# Altium footprint library 28377一体板.PcbLib: 62 footprints (part 2 of 4)
Each footprint in its own frame and in the unit in brackets; x right, y up, seen from the top. Pads: shape width x height; smd on the part's side, far side on the other; paste and mask are expansions set on the pad; w line width, h text height; cw(c..) or ccw(c..) is an arc to the next point about the centre after c.
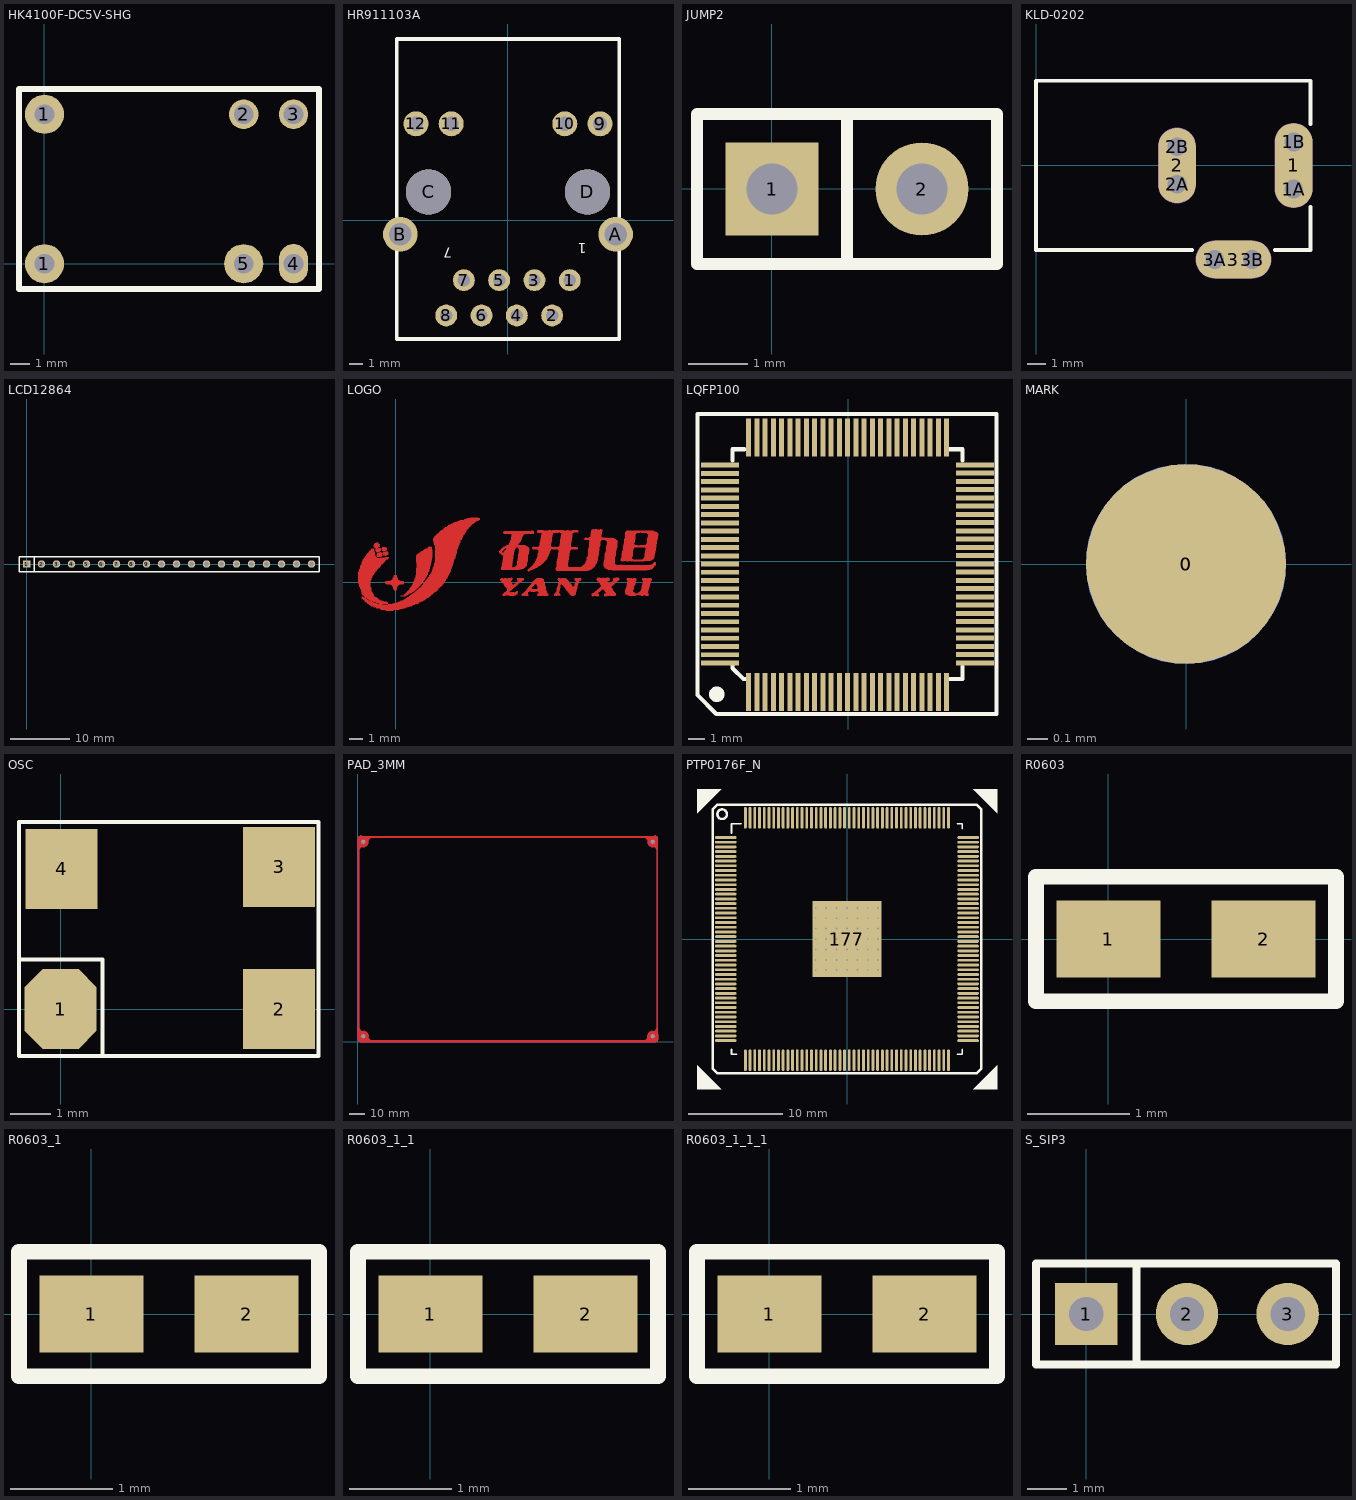
[diagram p1: the footprints below, top view; thin cyan lines are the x and y axes]

## HK4100F-DC5V-SHG [mm]
pads (6):
  round 2 hole 1: 1(0,0) 1(0,7.62) 5(10.16,0)
  round 1.5 hole 1: 2(10.16,7.62) 3(12.7,7.62)
  oval 1.5x2 hole 1: 4(12.7,0)
Top Overlay:
  lines w0.305: -1.3,-1.3 -1.3,8.92 14,8.92 14,-1.28 13.98,-1.3 -1.3,-1.3

## HR911103A [mm]
pads (16):
  round 1.575 hole 0.889: 1(4.462,-4.31) 2(3.192,-6.85) 3(1.922,-4.31) 4(0.652,-6.85) 5(-0.618,-4.31) 6(-1.888,-6.85) 7(-3.158,-4.31) 8(-4.428,-6.85)
  round 1.8 hole 1.02: 9(6.642,6.94) 10(4.102,6.94) 11(-4.068,6.94) 12(-6.608,6.94)
  round 2.5 hole 1.63: A(7.762,-1.01) B(-7.728,-1.01)
  round 3.25 hole 3.25: C(-5.698,2.04) D(5.732,2.04)
Top Overlay:
  lines w0.254: -7.983,-8.543 -7.983,13.04 8.016,13.04 8.016,-8.543 -7.983,-8.543
  text "1" at 5.677,-1.411 h1.27
  text "7" at -3.983,-1.743 h1.27

## JUMP2 [mil]
pads (2):
  rect 62x62 hole 34: 1(0.2,-0.31)
  round 62 hole 34: 2(100.2,-0.31)
Top Overlay:
  lines w8: 50.2,-50.31 50.2,49.69 ; -49.8,-50.31 150.2,-50.31 150.2,49.69 -49.8,49.69 -49.8,-50.31

## KLD-0202 [mm] "DC Power Jack, 2.5mm, KLD Series, PCB Mount"
pads (9):
  oval 2x4.5 all layers, no hole: 1(13.7,0)
  round 1.5 hole 1: 1A(13.7,-1.25) 1B(13.7,1.25) 2A(7.5,-1) 2B(7.5,1) 3A(9.5,-5) 3B(11.5,-5)
  oval 2x4 all layers, no hole: 2(7.5,0)
  oval 4x2 all layers, no hole: 3(10.5,-5)
Top Overlay:
  lines w0.2: 8.3,-4.5 0,-4.5 0,4.5 14.6,4.5 14.6,2.2 ; 12.7,-4.5 14.6,-4.5 14.6,-2.2
Mechanical 1:
  lines w1: 7.5,-1 7.5,1 ; 9.5,-5 11.5,-5 ; 13.7,-1.25 13.7,1.25
Mechanical 2:
  lines w2.016: 7.5,-1 7.5,1 ; 9.5,-5 11.5,-5 ; 13.7,-1.25 13.7,1.25

## LCD12864 [mil]
pads (20):
  rect 50x50 hole 32: 1(0,0)
  round 50 hole 32: 2(100,0) 3(200,0) 4(300,0) 5(400,0) 6(500,0) 7(600,0) 8(700,0) 9(800,0) 10(900,0) 11(1000,0) 12(1100,0) 13(1200,0) 14(1300,0) 15(1400,0) 16(1500,0) 17(1600,0) 18(1700,0) 19(1800,0) 20(1900,0)
Top Overlay:
  lines w10: 50,-50 50,50 ; -50,-50 -50,50 1950,50 1950,-50 -50,-50

## LOGO [mm]
Top Layer:
  drawing of 1962 lines, arcs and shapes, not listed

## LQFP100 [mm]
pads (100):
  rect 0.3x2.3 smd: 1(-6.041,-7.929) 2(-5.541,-7.929) 3(-5.041,-7.929) 4(-4.541,-7.929) 5(-4.041,-7.929) 6(-3.541,-7.929) 7(-3.041,-7.929) 8(-2.541,-7.929) 9(-2.041,-7.929) 10(-1.541,-7.929) 11(-1.041,-7.929) 12(-0.541,-7.929) 13(-0.041,-7.929) 14(0.459,-7.929) 15(0.959,-7.929) 16(1.459,-7.929) 17(1.959,-7.929) 18(2.459,-7.929) 19(2.959,-7.929) 20(3.459,-7.929) 21(3.959,-7.929) 22(4.459,-7.929) 23(4.959,-7.929) 24(5.459,-7.929) 25(5.959,-7.929) 51(5.959,7.504) 52(5.459,7.504) 53(4.959,7.504) 54(4.459,7.504) 55(3.959,7.504) 56(3.459,7.504) 57(2.959,7.504) 58(2.459,7.504) 59(1.959,7.504) 60(1.459,7.504) 61(0.959,7.504) 62(0.459,7.504) 63(-0.041,7.504) 64(-0.541,7.504) 65(-1.041,7.504) 66(-1.541,7.504) 67(-2.041,7.504) 68(-2.541,7.504) 69(-3.041,7.504) 70(-3.541,7.504) 71(-4.041,7.504) 72(-4.541,7.504) 73(-5.041,7.504) 74(-5.541,7.504) 75(-6.041,7.504)
  rect 2.3x0.3 smd: 26(7.674,-6.167) 27(7.674,-5.667) 28(7.674,-5.167) 29(7.674,-4.667) 30(7.674,-4.167) 31(7.674,-3.667) 32(7.674,-3.167) 33(7.674,-2.667) 34(7.674,-2.167) 35(7.674,-1.667) 36(7.674,-1.167) 37(7.674,-0.667) 38(7.674,-0.167) 39(7.674,0.333) 40(7.674,0.833) 41(7.674,1.333) 42(7.674,1.833) 43(7.674,2.333) 44(7.674,2.833) 45(7.674,3.333) 46(7.674,3.833) 47(7.674,4.333) 48(7.674,4.833) 49(7.674,5.333) 50(7.674,5.833) 76(-7.769,5.82) 77(-7.768,5.321) 78(-7.768,4.821) 79(-7.768,4.321) 80(-7.768,3.821) 81(-7.768,3.321) 82(-7.768,2.821) 83(-7.768,2.321) 84(-7.768,1.821) 85(-7.768,1.321) 86(-7.768,0.821) 87(-7.768,0.321) 88(-7.768,-0.179) 89(-7.768,-0.679) 90(-7.768,-1.179) 91(-7.768,-1.679) 92(-7.768,-2.179) 93(-7.768,-2.679) 94(-7.768,-3.179) 95(-7.768,-3.679) 96(-7.768,-4.179) 97(-7.768,-4.679) 98(-7.768,-5.179) 99(-7.768,-5.679) 100(-7.768,-6.179)
Top Overlay:
  circle w0.8: c-7.968,-8.077 r0.068
  lines w0.254: -7.01,-6.3 -7.01,-6.496 ; -7.01,6.1 -7.01,6.775 -6.305,6.775 ; -6.2,-7.152 -6.354,-7.152 ; 6.1,-7.152 6.92,-7.152 6.92,-6.403 6.922,-6.4 ; 6.1,6.78 6.922,6.78 6.922,6.1 ; -7.01,-6.496 -6.354,-7.152 ; -7.01,-6.496 -6.354,-7.152 ; -9.144,-8.128 -9.144,8.636 -9.144,8.788 -9.144,8.915 8.992,8.915 8.992,-9.271 -8.001,-9.271 -9.144,-8.128

## MARK [mm]
pads (2):
  round 1 smd: 0(0,0)
  round 1 smd far side: 0(0,0)
Top Solder:
  circle w0.5: c0,0 r0.75
Bottom Solder:
  circle w0.5: c0,0 r0.75

## OSC [mm]
pads (4):
  oct 1.8x2 smd: 1(0,0)
  rect 1.8x2 smd: 2(5.461,0) 3(5.461,3.556) 4(0.025,3.505)
Top Overlay:
  lines w0.1: -0.553,-1.168 -1.041,-1.168 -1.041,4.674 6.452,4.674
  lines w0.102: -1.041,1.245 -0.903,1.245 1.041,1.245 ; -0.686,-1.168 6.452,-1.168 6.452,4.674 ; 0.635,1.245 1.041,1.245 ; 1.041,-1.118 1.041,-0.914 1.041,1.245

## PAD_3MM [mm]
pads (4):
  round 0 hole 3: 1(3.5,3.5) 1(3.5,126.751) 1(186.746,3.5) 1(186.746,126.751)
Top Layer:
  region: 181.356,0.127 181.356,0.889 182.169,0.889 183.744,2.464 183.744,4.75 185.369,6.375 188.112,6.375 189.382,7.645 189.382,8.484 190.119,8.484 190.119,1.397 188.849,0.127
  region: 0.127,8.89 0.889,8.89 0.889,8.077 2.464,6.502 4.75,6.502 6.375,4.877 6.375,2.134 7.645,0.864 8.484,0.864 8.484,0.127 1.372,0.127 0.127,1.372
  region: 8.89,130.124 8.89,129.362 8.077,129.362 6.502,127.787 6.502,125.501 4.877,123.876 2.134,123.876 0.864,122.606 0.864,121.768 0.127,121.768 0.127,128.905 1.346,130.124
  region: 190.119,121.361 189.357,121.361 189.357,122.174 187.782,123.749 185.496,123.749 183.871,125.374 183.871,128.118 182.601,129.388 181.762,129.388 181.762,130.124 188.9,130.124 190.119,128.905
  lines w0.254: 3.023,6.706 3.759,6.706 cw(c3.759,6.274) 4.191,6.274 ; 3.251,123.546 3.81,123.571 ; 3.835,123.571 ccw(c3.835,123.723) 3.988,123.723 ; 6.274,126.06 ccw(c6.274,126.492) 6.706,126.492 6.706,127.229 ; 6.528,3.988 cw(c6.528,3.835) 6.68,3.835 ; 6.706,3.251 6.68,3.81 ; 183.54,3.023 183.54,3.759 cw(c183.972,3.759) 183.972,4.191 ; 183.54,127 183.566,126.441 ; 183.566,126.416 ccw(c183.718,126.416) 183.718,126.263 ; 186.055,123.977 ccw(c186.487,123.977) 186.487,123.546 187.223,123.546 ; 186.258,6.528 cw(c186.411,6.528) 186.411,6.68 ; 186.995,6.706 186.436,6.68 ; 3.81,123.571 ccw(c3.81,123.647) 3.886,123.647 cw(c3.81,123.647) 3.81,123.571 ; 6.68,3.81 ccw(c6.604,3.81) 6.604,3.886 cw(c6.604,3.81) 6.68,3.81 ; 183.566,126.441 ccw(c183.642,126.441) 183.642,126.365 cw(c183.642,126.441) 183.566,126.441 ; 186.436,6.68 ccw(c186.436,6.604) 186.36,6.604 cw(c186.436,6.604) 186.436,6.68 ; 0.127,2.032 ccw(c2.032,2.032) 2.032,0.127 188.214,0.127 ccw(c188.214,2.032) 190.119,2.032 190.119,128.219 ccw(c188.214,128.219) 188.214,130.124 2.032,130.124 ccw(c2.032,128.219) 0.127,128.219 0.127,2.032
  lines w1: 0.675,8.85 ccw(c3.175,8.85) 3.175,6.35 ; 0.787,7.569 cw(c0.787,7.682) 0.675,7.682 0.675,121.401 cw(c3.175,121.401) 3.088,123.9 ; 3.592,6.3 cw(c3.81,3.81) 6.31,3.81 ; 3.81,123.941 ccw(c3.81,126.441) 6.3,126.659 ; 6.35,127.076 cw(c8.85,127.076) 8.85,129.576 ; 6.352,3.088 ccw(c8.85,3.175) 8.85,0.675 183.326,0.675 ccw(c183.326,0.711) 183.363,0.711 ; 8.89,129.743 ccw(c9.057,129.743) 9.057,129.576 181.396,129.576 cw(c181.396,127.076) 183.894,127.163 ; 181.396,0.675 ccw(c181.396,3.175) 183.896,3.175 ; 183.936,126.441 ccw(c186.436,126.441) 186.654,123.951 ; 183.946,3.592 cw(c186.436,3.81) 186.436,6.31 ; 187.071,123.901 cw(c187.071,121.401) 189.571,121.401 189.571,8.85 cw(c187.071,8.85) 187.158,6.352
Bottom Layer:
  region: 181.356,0.127 181.356,0.889 182.169,0.889 183.744,2.464 183.744,4.75 185.369,6.375 188.112,6.375 189.382,7.645 189.382,8.484 190.119,8.484 190.119,1.397 188.849,0.127
  region: 0.127,8.89 0.889,8.89 0.889,8.077 2.464,6.502 4.75,6.502 6.375,4.877 6.375,2.134 7.645,0.864 8.484,0.864 8.484,0.127 1.372,0.127 0.127,1.372
  region: 8.89,130.124 8.89,129.362 8.077,129.362 6.502,127.787 6.502,125.501 4.877,123.876 2.134,123.876 0.864,122.606 0.864,121.768 0.127,121.768 0.127,128.905 1.346,130.124
  region: 190.119,121.361 189.357,121.361 189.357,122.174 187.782,123.749 185.496,123.749 183.871,125.374 183.871,128.118 182.601,129.388 181.762,129.388 181.762,130.124 188.9,130.124 190.119,128.905
  lines w0.254: 3.023,6.706 3.759,6.706 cw(c3.759,6.274) 4.191,6.274 ; 3.251,123.546 3.81,123.571 ; 3.835,123.571 ccw(c3.835,123.723) 3.988,123.723 ; 6.274,126.06 ccw(c6.274,126.492) 6.706,126.492 6.706,127.229 ; 6.528,3.988 cw(c6.528,3.835) 6.68,3.835 ; 6.706,3.251 6.68,3.81 ; 183.54,3.023 183.54,3.759 cw(c183.972,3.759) 183.972,4.191 ; 183.54,127 183.566,126.441 ; 183.566,126.416 ccw(c183.718,126.416) 183.718,126.263 ; 186.055,123.977 ccw(c186.487,123.977) 186.487,123.546 187.223,123.546 ; 186.258,6.528 cw(c186.411,6.528) 186.411,6.68 ; 186.995,6.706 186.436,6.68 ; 3.81,123.571 ccw(c3.81,123.647) 3.886,123.647 cw(c3.81,123.647) 3.81,123.571 ; 6.68,3.81 ccw(c6.604,3.81) 6.604,3.886 cw(c6.604,3.81) 6.68,3.81 ; 183.566,126.441 ccw(c183.642,126.441) 183.642,126.365 cw(c183.642,126.441) 183.566,126.441 ; 186.436,6.68 ccw(c186.436,6.604) 186.36,6.604 cw(c186.436,6.604) 186.436,6.68 ; 0.127,2.032 ccw(c2.032,2.032) 2.032,0.127 188.214,0.127 ccw(c188.214,2.032) 190.119,2.032 190.119,128.219 ccw(c188.214,128.219) 188.214,130.124 2.032,130.124 ccw(c2.032,128.219) 0.127,128.219 0.127,2.032
  lines w1: 0.675,8.85 ccw(c3.175,8.85) 3.175,6.35 ; 0.787,7.569 cw(c0.787,7.682) 0.675,7.682 0.675,121.401 cw(c3.175,121.401) 3.088,123.9 ; 3.592,6.3 cw(c3.81,3.81) 6.31,3.81 ; 3.81,123.941 ccw(c3.81,126.441) 6.3,126.659 ; 6.35,127.076 cw(c8.85,127.076) 8.85,129.576 ; 6.352,3.088 ccw(c8.85,3.175) 8.85,0.675 183.326,0.675 ccw(c183.326,0.711) 183.363,0.711 ; 8.89,129.743 ccw(c9.057,129.743) 9.057,129.576 181.396,129.576 cw(c181.396,127.076) 183.894,127.163 ; 181.396,0.675 ccw(c181.396,3.175) 183.896,3.175 ; 183.936,126.441 ccw(c186.436,126.441) 186.654,123.951 ; 183.946,3.592 cw(c186.436,3.81) 186.436,6.31 ; 187.071,123.901 cw(c187.071,121.401) 189.571,121.401 189.571,8.85 cw(c187.071,8.85) 187.158,6.352
Top Solder:
  region: 190.119,121.361 189.357,121.361 189.357,122.174 187.782,123.749 185.496,123.749 183.871,125.374 183.871,128.118 182.601,129.388 181.762,129.388 181.762,130.124 188.9,130.124 190.119,128.905
  region: 8.89,130.124 8.89,129.362 8.077,129.362 6.502,127.787 6.502,125.501 4.877,123.876 2.134,123.876 0.864,122.606 0.864,121.768 0.127,121.768 0.127,128.905 1.346,130.124
  region: 0.127,8.89 0.889,8.89 0.889,8.077 2.464,6.502 4.75,6.502 6.375,4.877 6.375,2.134 7.645,0.864 8.484,0.864 8.484,0.127 1.372,0.127 0.127,1.372
  region: 181.356,0.127 181.356,0.889 182.169,0.889 183.744,2.464 183.744,4.75 185.369,6.375 188.112,6.375 189.382,7.645 189.382,8.484 190.119,8.484 190.119,1.397 188.849,0.127
  lines w0.254: 3.023,6.706 3.759,6.706 cw(c3.759,6.274) 4.191,6.274 ; 3.251,123.546 3.81,123.571 ; 3.835,123.571 ccw(c3.835,123.723) 3.988,123.723 ; 6.274,126.06 ccw(c6.274,126.492) 6.706,126.492 6.706,127.229 ; 6.528,3.988 cw(c6.528,3.835) 6.68,3.835 ; 6.706,3.251 6.68,3.81 ; 183.54,3.023 183.54,3.759 cw(c183.972,3.759) 183.972,4.191 ; 183.54,127 183.566,126.441 ; 183.566,126.416 ccw(c183.718,126.416) 183.718,126.263 ; 186.055,123.977 ccw(c186.487,123.977) 186.487,123.546 187.223,123.546 ; 186.258,6.528 cw(c186.411,6.528) 186.411,6.68 ; 186.995,6.706 186.436,6.68 ; 3.81,123.571 ccw(c3.81,123.647) 3.886,123.647 cw(c3.81,123.647) 3.81,123.571 ; 6.68,3.81 ccw(c6.604,3.81) 6.604,3.886 cw(c6.604,3.81) 6.68,3.81 ; 183.566,126.441 ccw(c183.642,126.441) 183.642,126.365 cw(c183.642,126.441) 183.566,126.441 ; 186.436,6.68 ccw(c186.436,6.604) 186.36,6.604 cw(c186.436,6.604) 186.436,6.68 ; 0.127,2.032 ccw(c2.032,2.032) 2.032,0.127 188.214,0.127 ccw(c188.214,2.032) 190.119,2.032 190.119,128.219 ccw(c188.214,128.219) 188.214,130.124 2.032,130.124 ccw(c2.032,128.219) 0.127,128.219 0.127,2.032
  lines w1: 0.675,8.85 ccw(c3.175,8.85) 3.175,6.35 ; 0.787,7.569 cw(c0.787,7.682) 0.675,7.682 0.675,121.401 cw(c3.175,121.401) 3.088,123.9 ; 3.592,6.3 cw(c3.81,3.81) 6.31,3.81 ; 3.81,123.941 ccw(c3.81,126.441) 6.3,126.659 ; 6.35,127.076 cw(c8.85,127.076) 8.85,129.576 ; 6.352,3.088 ccw(c8.85,3.175) 8.85,0.675 183.326,0.675 ccw(c183.326,0.711) 183.363,0.711 ; 8.89,129.743 ccw(c9.057,129.743) 9.057,129.576 181.396,129.576 cw(c181.396,127.076) 183.894,127.163 ; 181.396,0.675 ccw(c181.396,3.175) 183.896,3.175 ; 183.936,126.441 ccw(c186.436,126.441) 186.654,123.951 ; 183.946,3.592 cw(c186.436,3.81) 186.436,6.31 ; 187.071,123.901 cw(c187.071,121.401) 189.571,121.401 189.571,8.85 cw(c187.071,8.85) 187.158,6.352
Bottom Solder:
  region: 190.119,121.361 189.357,121.361 189.357,122.174 187.782,123.749 185.496,123.749 183.871,125.374 183.871,128.118 182.601,129.388 181.762,129.388 181.762,130.124 188.9,130.124 190.119,128.905
  region: 8.89,130.124 8.89,129.362 8.077,129.362 6.502,127.787 6.502,125.501 4.877,123.876 2.134,123.876 0.864,122.606 0.864,121.768 0.127,121.768 0.127,128.905 1.346,130.124
  region: 0.127,8.89 0.889,8.89 0.889,8.077 2.464,6.502 4.75,6.502 6.375,4.877 6.375,2.134 7.645,0.864 8.484,0.864 8.484,0.127 1.372,0.127 0.127,1.372
  region: 181.356,0.127 181.356,0.889 182.169,0.889 183.744,2.464 183.744,4.75 185.369,6.375 188.112,6.375 189.382,7.645 189.382,8.484 190.119,8.484 190.119,1.397 188.849,0.127
  lines w0.254: 3.023,6.706 3.759,6.706 cw(c3.759,6.274) 4.191,6.274 ; 3.251,123.546 3.81,123.571 ; 3.835,123.571 ccw(c3.835,123.723) 3.988,123.723 ; 6.274,126.06 ccw(c6.274,126.492) 6.706,126.492 6.706,127.229 ; 6.528,3.988 cw(c6.528,3.835) 6.68,3.835 ; 6.706,3.251 6.68,3.81 ; 183.54,3.023 183.54,3.759 cw(c183.972,3.759) 183.972,4.191 ; 183.54,127 183.566,126.441 ; 183.566,126.416 ccw(c183.718,126.416) 183.718,126.263 ; 186.055,123.977 ccw(c186.487,123.977) 186.487,123.546 187.223,123.546 ; 186.258,6.528 cw(c186.411,6.528) 186.411,6.68 ; 186.995,6.706 186.436,6.68 ; 3.81,123.571 ccw(c3.81,123.647) 3.886,123.647 cw(c3.81,123.647) 3.81,123.571 ; 6.68,3.81 ccw(c6.604,3.81) 6.604,3.886 cw(c6.604,3.81) 6.68,3.81 ; 183.566,126.441 ccw(c183.642,126.441) 183.642,126.365 cw(c183.642,126.441) 183.566,126.441 ; 186.436,6.68 ccw(c186.436,6.604) 186.36,6.604 cw(c186.436,6.604) 186.436,6.68 ; 0.127,2.032 ccw(c2.032,2.032) 2.032,0.127 188.214,0.127 ccw(c188.214,2.032) 190.119,2.032 190.119,128.219 ccw(c188.214,128.219) 188.214,130.124 2.032,130.124 ccw(c2.032,128.219) 0.127,128.219 0.127,2.032
  lines w1: 0.675,8.85 ccw(c3.175,8.85) 3.175,6.35 ; 0.787,7.569 cw(c0.787,7.682) 0.675,7.682 0.675,121.401 cw(c3.175,121.401) 3.088,123.9 ; 3.592,6.3 cw(c3.81,3.81) 6.31,3.81 ; 3.81,123.941 ccw(c3.81,126.441) 6.3,126.659 ; 6.35,127.076 cw(c8.85,127.076) 8.85,129.576 ; 6.352,3.088 ccw(c8.85,3.175) 8.85,0.675 183.326,0.675 ccw(c183.326,0.711) 183.363,0.711 ; 8.89,129.743 ccw(c9.057,129.743) 9.057,129.576 181.396,129.576 cw(c181.396,127.076) 183.894,127.163 ; 181.396,0.675 ccw(c181.396,3.175) 183.896,3.175 ; 183.936,126.441 ccw(c186.436,126.441) 186.654,123.951 ; 183.946,3.592 cw(c186.436,3.81) 186.436,6.31 ; 187.071,123.901 cw(c187.071,121.401) 189.571,121.401 189.571,8.85 cw(c187.071,8.85) 187.158,6.352
Mechanical 1:
  lines w0.254: 0.127,2.032 ccw(c2.032,2.032) 2.032,0.127 188.214,0.127 ccw(c188.214,2.032) 190.119,2.032 190.119,128.219 ccw(c188.214,128.219) 188.214,130.124 2.032,130.124 ccw(c2.032,128.219) 0.127,128.219 0.127,2.032

## PTP0176F_N [mm]
pads (226):
  oval 2.3x0.3 smd: 1(-12.833,10.747) 2(-12.833,10.247) 3(-12.833,9.747) 4(-12.833,9.247) 5(-12.833,8.747) 6(-12.833,8.247) 7(-12.833,7.747) 8(-12.833,7.247) 9(-12.833,6.747) 10(-12.833,6.247) 11(-12.833,5.747) 12(-12.833,5.247) 13(-12.833,4.747) 14(-12.833,4.247) 15(-12.833,3.747) 16(-12.833,3.247) 17(-12.833,2.747) 18(-12.833,2.247) 19(-12.833,1.747) 20(-12.833,1.247) 21(-12.833,0.747) 22(-12.833,0.247) 23(-12.833,-0.253) 24(-12.833,-0.753) 25(-12.833,-1.253) 26(-12.833,-1.753) 27(-12.833,-2.253) 28(-12.833,-2.753) 29(-12.833,-3.253) 30(-12.833,-3.753) 31(-12.833,-4.253) 32(-12.833,-4.753) 33(-12.833,-5.253) 34(-12.833,-5.753) 35(-12.833,-6.253) 36(-12.833,-6.753) 37(-12.833,-7.253) 38(-12.833,-7.753) 39(-12.833,-8.253) 40(-12.833,-8.753) 41(-12.833,-9.253) 42(-12.833,-9.753) 43(-12.833,-10.253) 44(-12.833,-10.753) 89(12.817,-10.753) 90(12.817,-10.253) 91(12.817,-9.753) 92(12.817,-9.253) 93(12.817,-8.753) 94(12.817,-8.253) 95(12.817,-7.753) 96(12.817,-7.253) 97(12.817,-6.753) 98(12.817,-6.253) 99(12.817,-5.753) 100(12.817,-5.253) 101(12.817,-4.753) 102(12.817,-4.253) 103(12.817,-3.753) 104(12.817,-3.253) 105(12.817,-2.753) 106(12.817,-2.253) 107(12.817,-1.753) 108(12.817,-1.253) 109(12.817,-0.753) 110(12.817,-0.253) 111(12.817,0.247) 112(12.817,0.747) 113(12.817,1.247) 114(12.817,1.747) 115(12.817,2.247) 116(12.817,2.747) 117(12.817,3.247) 118(12.817,3.747) 119(12.817,4.247) 120(12.817,4.747) 121(12.817,5.247) 122(12.817,5.747) 123(12.817,6.247) 124(12.817,6.747) 125(12.817,7.247) 126(12.817,7.747) 127(12.817,8.247) 128(12.817,8.747) 129(12.817,9.247) 130(12.817,9.747) 131(12.817,10.247) 132(12.817,10.747)
  oval 0.3x2.3 smd: 45(-10.758,-12.828) 46(-10.258,-12.828) 47(-9.758,-12.828) 48(-9.258,-12.828) 49(-8.758,-12.828) 50(-8.258,-12.828) 51(-7.758,-12.828) 52(-7.258,-12.828) 53(-6.758,-12.828) 54(-6.258,-12.828) 55(-5.758,-12.828) 56(-5.258,-12.828) 57(-4.758,-12.828) 58(-4.258,-12.828) 59(-3.758,-12.828) 60(-3.258,-12.828) 61(-2.758,-12.828) 62(-2.258,-12.828) 63(-1.758,-12.828) 64(-1.258,-12.828) 65(-0.758,-12.828) 66(-0.258,-12.828) 67(0.242,-12.828) 68(0.742,-12.828) 69(1.242,-12.828) 70(1.742,-12.828) 71(2.242,-12.828) 72(2.742,-12.828) 73(3.242,-12.828) 74(3.742,-12.828) 75(4.242,-12.828) 76(4.742,-12.828) 77(5.242,-12.828) 78(5.742,-12.828) 79(6.242,-12.828) 80(6.742,-12.828) 81(7.242,-12.828) 82(7.742,-12.828) 83(8.242,-12.828) 84(8.742,-12.828) 85(9.242,-12.828) 86(9.742,-12.828) 87(10.242,-12.828) 88(10.742,-12.828) 133(10.742,12.822) 134(10.242,12.822) 135(9.742,12.822) 136(9.242,12.822) 137(8.742,12.822) 138(8.242,12.822) 139(7.742,12.822) 140(7.242,12.822) 141(6.742,12.822) 142(6.242,12.822) 143(5.742,12.822) 144(5.242,12.822) 145(4.742,12.822) 146(4.242,12.822) 147(3.742,12.822) 148(3.242,12.822) 149(2.742,12.822) 150(2.242,12.822) 151(1.742,12.822) 152(1.242,12.822) 153(0.742,12.822) 154(0.242,12.822) 155(-0.258,12.822) 156(-0.758,12.822) 157(-1.258,12.822) 158(-1.758,12.822) 159(-2.258,12.822) 160(-2.758,12.822) 161(-3.258,12.822) 162(-3.758,12.822) 163(-4.258,12.822) 164(-4.758,12.822) 165(-5.258,12.822) 166(-5.758,12.822) 167(-6.258,12.822) 168(-6.758,12.822) 169(-7.258,12.822) 170(-7.758,12.822) 171(-8.258,12.822) 172(-8.758,12.822) 173(-9.258,12.822) 174(-9.758,12.822) 175(-10.258,12.822) 176(-10.758,12.822)
  round 0.5 / inner round 1.524 / far side round 0.5 hole 0.203: 177(-3.308,-3.303) 177(-3.308,-2.203) 177(-3.308,-1.103) 177(-3.308,1.097) 177(-3.308,2.197) 177(-3.308,3.297) 177(-3.308,-0.003) 177(-2.208,-0.003) 177(-2.208,-3.303) 177(-2.208,-2.203) 177(-2.208,-1.103) 177(-2.208,1.097) 177(-2.208,2.197) 177(-2.208,3.297) 177(-1.108,-3.303) 177(-1.108,-1.103) 177(-1.108,-0.003) 177(-1.108,1.097) 177(-1.108,3.297) 177(-1.108,-2.203) 177(-1.108,2.197) 177(-0.008,-3.303) 177(-0.008,-2.203) 177(-0.008,-1.103) 177(-0.008,-0.003) 177(-0.008,1.097) 177(-0.008,2.197) 177(-0.008,3.297) 177(1.092,-3.303) 177(1.092,-2.203) 177(1.092,-1.103) 177(1.092,-0.003) 177(1.092,1.097) 177(1.092,2.197) 177(1.092,3.297) 177(2.192,-0.003) 177(2.192,-3.303) 177(2.192,-2.203) 177(2.192,-1.103) 177(2.192,1.097) 177(2.192,2.197) 177(2.192,3.297) 177(3.292,-3.303) 177(3.292,-1.103) 177(3.292,-0.003) 177(3.292,1.097) 177(3.292,3.297) 177(3.292,-2.203) 177(3.292,2.197)
  rect 7.33x8.07 smd: 177(-0.008,-0.003)
Top Overlay:
  circle w0.254: c-13.208,13.208 r0.508
  region: -15.875,15.875 -15.875,13.335 -13.335,15.875
  region: -15.875,-15.875 -13.335,-15.875 -15.875,-13.335
  region: 15.875,15.875 13.335,15.875 15.875,13.335
  region: 15.875,-15.875 15.875,-13.335 13.335,-15.875
  lines w0.2: -12.208,-11.703 -12.208,-12.203 -11.708,-12.203 ; -12.208,11.197 -12.208,12.197 -11.208,12.197 ; 11.692,-12.203 12.192,-12.203 12.192,-11.703 ; 11.692,12.197 12.192,12.197 12.192,11.697
  lines w0.254: -14.224,-13.716 -14.224,13.716 -13.716,14.224 13.716,14.224 14.224,13.716 14.224,-13.716 13.716,-14.224 -13.716,-14.224 -14.224,-13.716
Bottom Solder:
  rectangle: -3.683,-4.064 3.683,4.064

## R0603 [mil]
pads (2):
  rect 40.2x29.9 smd: 1(0,0) 2(60,0)
Top Overlay:
  lines w6: 88,-24 -28,-24 -28,24 88,24 88,-23

## R0603_1 [mil]
pads (2):
  rect 40.2x29.9 smd: 1(0,0) 2(60,0)
Top Overlay:
  lines w6: 88,-24 -28,-24 -28,24 88,24 88,-23

## R0603_1_1 [mil]
pads (2):
  rect 40.2x29.9 smd: 1(0,0) 2(60,0)
Top Overlay:
  lines w6: 88,-24 -28,-24 -28,24 88,24 88,-23

## R0603_1_1_1 [mil]
pads (2):
  rect 40.2x29.9 smd: 1(0,0) 2(60,0)
Top Overlay:
  lines w6: 88,-24 -28,-24 -28,24 88,24 88,-23

## S_SIP3 [mil]
pads (3):
  rect 62x62 hole 34: 1(0,0)
  round 62 hole 34: 2(100,0) 3(200,0)
Top Overlay:
  lines w8: 50,-50 50,50 ; -50,-50 248.03,-50 248.03,50 -50,50 -50,-50